# Altium integrated library TI_Logic_Flip-Flop,Latch,Register.IntLib: 2598 symbols (part 76 of 122)
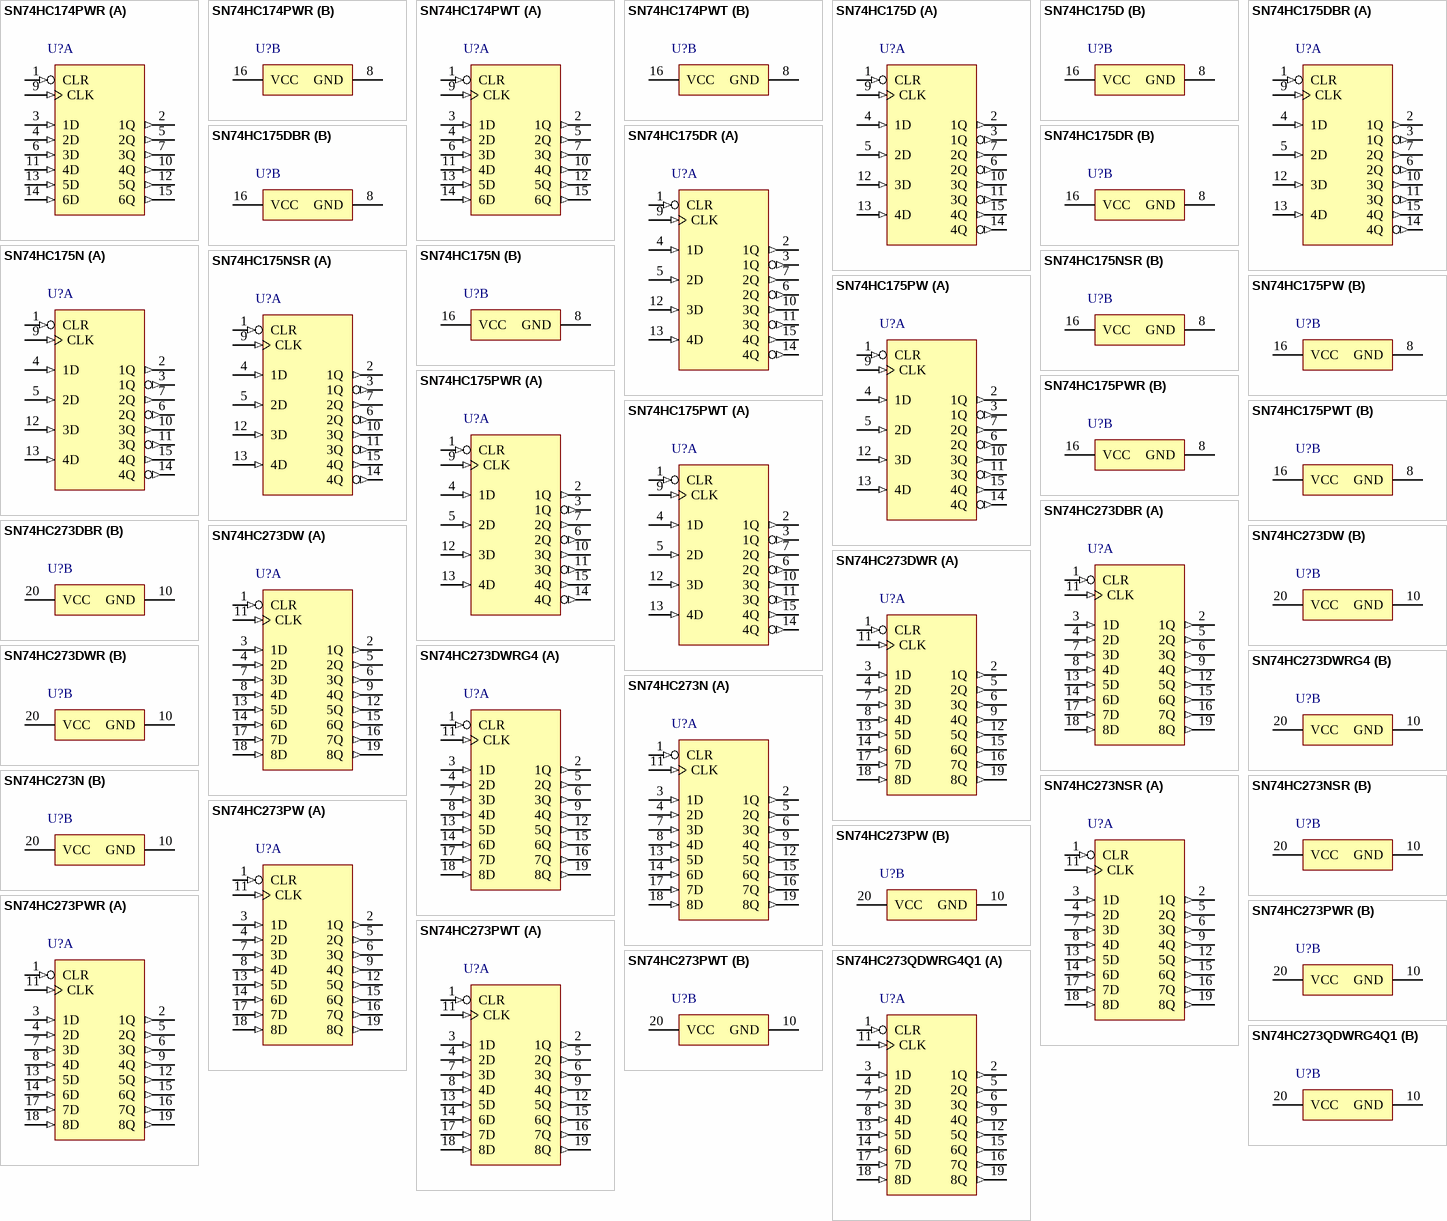
[diagram p214: symbols SN74HC174PWR to SN74HC273QDWRG4Q1]

## SN74HC175PWT
designator U?
Quadruple D-Type Flip-Flops With Clear, PW0016A, SMALL T&R; Generic Part Number: SN74HC175; Manufacturer: Texas Instruments; PartNumber: SN74HC175PWT; VCC(Min)(V): 2; VCC(Max)(V): 6; Output Type: CMOS; Output: 2S; ICC @ Nom Voltage(Max)(mA): 0.08; Bits(#): 4; F @ Nom Voltage(Max)(Mhz): 28; Rating: Catalog; Technology Family: HC; Voltage(Nom)(V): 3.3,5; Schmitt Trigger: No; Output Drive (IOL/IOH)(Max)(mA): 5.2/-5.2; Output Logic: Inverted,Non-inverted; tpd @ Nom Voltage(Max)(ns): 32; DatasheetVersion: SCLS299D; PackageReference: PW0016A; Supplier 1: Digi-Key; Supplier Part Number 1: SN74HC175PWT-ND; Supplier 2: Mouser; Supplier Part Number 2: 595-SN74HC175PWT; Input Type: CMOS; Operating Temperature Range(C): -40 to 85; 3-State Output: No; Code_JEDEC: MO-153; ComponentLink1Description: Manufacturer URL; ComponentLink1URL: http://www.ti.com/; ComponentLink2Description: Datasheet; ComponentLink2URL: http://www.ti.com/lit/ds/symlink/sn74hc175.pdf; ComponentLink3Description: Package Specification; ComponentLink3URL: http://www.ti.com/lit/ml/mpds361/mpds361.pdf
footprint PW0016A_N (SOP, 16-Leads, Body 5.1x4.5mm, Pitch 0.65mm, IPC Medium Density)
footprint PW0016A_M (SOP, 16-Leads, Body 5.1x4.5mm, Pitch 0.65mm, IPC Low Density)
footprint PW0016A_L (SOP, 16-Leads, Body 5.1x4.5mm, Pitch 0.65mm, IPC High Density)
part A pins: 1 CLR (in), 2 1Q (out), 3 1Q (out), 4 1D (in), 5 2D (in), 6 2Q (out), 7 2Q (out), 9 CLK (in), 10 3Q (out), 11 3Q (out), 12 3D (in), 13 4D (in), 14 4Q (out), 15 4Q (out)
part B pins: 8 GND (power), 16 VCC (power)

## SN74HC273DBR
designator U?
Octal D-Type Flip-Flops With Clear, DB0020A, LARGE T&R; Generic Part Number: SN74HC273; Manufacturer: Texas Instruments; PartNumber: SN74HC273DBR; VCC(Min)(V): 2; VCC(Max)(V): 6; Output Type: CMOS; Output: 2S; ICC @ Nom Voltage(Max)(mA): 0.08; Bits(#): 8; F @ Nom Voltage(Max)(Mhz): 28; Rating: Catalog; Technology Family: HC; Voltage(Nom)(V): 3.3,5; Schmitt Trigger: No; Output Drive (IOL/IOH)(Max)(mA): 5.2/-5.2; Output Logic: Non-inverted; tpd @ Nom Voltage(Max)(ns): 34; DatasheetVersion: SCLS136D; PackageReference: DB0020A; Supplier 1: Digi-Key; Supplier Part Number 1: 296-8295-2-ND; Supplier 2: Digi-Key; Supplier Part Number 2: 296-8295-1-ND; Supplier 3: Digi-Key; Supplier Part Number 3: 296-8295-6-ND; Supplier 4: Newark; Supplier Part Number 4: 76C3528; Supplier 5: Mouser; Supplier Part Number 5: 595-SN74HC273DBR; Input Type: CMOS; Operating Temperature Range(C): -40 to 85; 3-State Output: No; Code_JEDEC: MO-150; ComponentLink1Description: Manufacturer URL; ComponentLink1URL: http://www.ti.com/; ComponentLink2Description: Datasheet; ComponentLink2URL: http://www.ti.com/lit/ds/symlink/sn74hc273.pdf; ComponentLink3Description: Package Specification; ComponentLink3URL: http://www.ti.com/lit/ml/mpds508/mpds508.pdf
footprint DB0020A_N (SOP, 20-Leads, Body 5.6x7.5mm, Pitch 0.65mm, IPC Medium Density)
footprint DB0020A_M (SOP, 20-Leads, Body 5.6x7.5mm, Pitch 0.65mm, IPC Low Density)
footprint DB0020A_L (SOP, 20-Leads, Body 5.6x7.5mm, Pitch 0.65mm, IPC High Density)
part A pins: 1 CLR (in) "Clear Pin", 2 1Q (out) "1Q Output", 3 1D (in) "1D Input", 4 2D (in) "2D Input", 5 2Q (out) "2Q Output", 6 3Q (out) "3Q Output", 7 3D (in) "3D Input", 8 4D (in) "4D Input", 9 4Q (out) "4Q Output", 11 CLK (in) "Clock Pin", 12 5Q (out) "5Q Output", 13 5D (in) "5D Input", 14 6D (in) "6D Input", 15 6Q (out) "6Q Output", 16 7Q (out) "7Q Output", 17 7D (in) "7D Input", 18 8D (in) "8D Input", 19 8Q (out) "8Q Output"
part B pins: 10 GND (power) "Ground Pin", 20 VCC (power) "Power Pin"

## SN74HC273DW
designator U?
Octal D-Type Flip-Flops With Clear, DW0020A, TUBE; Generic Part Number: SN74HC273; Manufacturer: Texas Instruments; PartNumber: SN74HC273DW; VCC(Min)(V): 2; VCC(Max)(V): 6; Output Type: CMOS; Output: 2S; ICC @ Nom Voltage(Max)(mA): 0.08; Bits(#): 8; F @ Nom Voltage(Max)(Mhz): 28; Rating: Catalog; Technology Family: HC; Voltage(Nom)(V): 3.3,5; Schmitt Trigger: No; Output Drive (IOL/IOH)(Max)(mA): 5.2/-5.2; Output Logic: Non-inverted; tpd @ Nom Voltage(Max)(ns): 34; DatasheetVersion: SCLS136D; PackageReference: DW0020A; Supplier 1: Digi-Key; Supplier Part Number 1: 296-1198-5-ND; Supplier 2: Farnell; Supplier Part Number 2: 2133181; Supplier 3: Newark; Supplier Part Number 3: 36K3554; Supplier 4: Mouser; Supplier Part Number 4: 595-SN74HC273DW; Input Type: CMOS; Operating Temperature Range(C): -40 to 85; 3-State Output: No; Code_JEDEC: MS-013; ComponentLink1Description: Manufacturer URL; ComponentLink1URL: http://www.ti.com/; ComponentLink2Description: Datasheet; ComponentLink2URL: http://www.ti.com/lit/ds/symlink/sn74hc273.pdf; ComponentLink3Description: Package Specification; ComponentLink3URL: http://www.ti.com/lit/ml/mpds173a/mpds173a.pdf
footprint DW0020A_N (SOIC, 20-Leads, Body 13x7.6mm, Pitch 1.27mm, IPC Medium Density)
footprint DW0020A_M (SOIC, 20-Leads, Body 13x7.6mm, Pitch 1.27mm, IPC Low Density)
footprint DW0020A_L (SOIC, 20-Leads, Body 13x7.6mm, Pitch 1.27mm, IPC High Density)
part A pins: 1 CLR (in) "Clear Pin", 2 1Q (out) "1Q Output", 3 1D (in) "1D Input", 4 2D (in) "2D Input", 5 2Q (out) "2Q Output", 6 3Q (out) "3Q Output", 7 3D (in) "3D Input", 8 4D (in) "4D Input", 9 4Q (out) "4Q Output", 11 CLK (in) "Clock Pin", 12 5Q (out) "5Q Output", 13 5D (in) "5D Input", 14 6D (in) "6D Input", 15 6Q (out) "6Q Output", 16 7Q (out) "7Q Output", 17 7D (in) "7D Input", 18 8D (in) "8D Input", 19 8Q (out) "8Q Output"
part B pins: 10 GND (power) "Ground Pin", 20 VCC (power) "Power Pin"

## SN74HC273DWR
designator U?
Octal D-Type Flip-Flops With Clear, DW0020A, LARGE T&R; Generic Part Number: SN74HC273; Manufacturer: Texas Instruments; PartNumber: SN74HC273DWR; VCC(Min)(V): 2; VCC(Max)(V): 6; Output Type: CMOS; Output: 2S; ICC @ Nom Voltage(Max)(mA): 0.08; Bits(#): 8; F @ Nom Voltage(Max)(Mhz): 28; Rating: Catalog; Technology Family: HC; Voltage(Nom)(V): 3.3,5; Schmitt Trigger: No; Output Drive (IOL/IOH)(Max)(mA): 5.2/-5.2; Output Logic: Non-inverted; tpd @ Nom Voltage(Max)(ns): 34; DatasheetVersion: SCLS136D; PackageReference: DW0020A; Supplier 1: Digi-Key; Supplier Part Number 1: 296-1198-2-ND; Supplier 2: Digi-Key; Supplier Part Number 2: 296-1198-1-ND; Supplier 3: Digi-Key; Supplier Part Number 3: 296-1198-6-ND; Supplier 4: Farnell; Supplier Part Number 4: 9591389; Supplier 5: Farnell; Supplier Part Number 5: 2412321; Supplier 6: Farnell; Supplier Part Number 6: 1231889; Supplier 7: Newark; Supplier Part Number 7: 67K2847; Supplier 8: Newark; Supplier Part Number 8: 28X3813; Supplier 9: Mouser; Supplier Part Number 9: 595-SN74HC273DWR; Input Type: CMOS; Operating Temperature Range(C): -40 to 85; 3-State Output: No; Code_JEDEC: MS-013; ComponentLink1Description: Manufacturer URL; ComponentLink1URL: http://www.ti.com/; ComponentLink2Description: Datasheet; ComponentLink2URL: http://www.ti.com/lit/ds/symlink/sn74hc273.pdf; ComponentLink3Description: Package Specification; ComponentLink3URL: http://www.ti.com/lit/ml/mpds173a/mpds173a.pdf
footprint DW0020A_N (SOIC, 20-Leads, Body 13x7.6mm, Pitch 1.27mm, IPC Medium Density)
footprint DW0020A_M (SOIC, 20-Leads, Body 13x7.6mm, Pitch 1.27mm, IPC Low Density)
footprint DW0020A_L (SOIC, 20-Leads, Body 13x7.6mm, Pitch 1.27mm, IPC High Density)
part A pins: 1 CLR (in) "Clear Pin", 2 1Q (out) "1Q Output", 3 1D (in) "1D Input", 4 2D (in) "2D Input", 5 2Q (out) "2Q Output", 6 3Q (out) "3Q Output", 7 3D (in) "3D Input", 8 4D (in) "4D Input", 9 4Q (out) "4Q Output", 11 CLK (in) "Clock Pin", 12 5Q (out) "5Q Output", 13 5D (in) "5D Input", 14 6D (in) "6D Input", 15 6Q (out) "6Q Output", 16 7Q (out) "7Q Output", 17 7D (in) "7D Input", 18 8D (in) "8D Input", 19 8Q (out) "8Q Output"
part B pins: 10 GND (power) "Ground Pin", 20 VCC (power) "Power Pin"

## SN74HC273DWRG4
designator U?
Octal D-Type Flip-Flops With Clear, DW0020A, LARGE T&R; Generic Part Number: SN74HC273; Manufacturer: Texas Instruments; PartNumber: SN74HC273DWRG4; VCC(Min)(V): 2; VCC(Max)(V): 6; Output Type: CMOS; Output: 2S; ICC @ Nom Voltage(Max)(mA): 0.08; Bits(#): 8; F @ Nom Voltage(Max)(Mhz): 28; Rating: Catalog; Technology Family: HC; Voltage(Nom)(V): 3.3,5; Schmitt Trigger: No; Output Drive (IOL/IOH)(Max)(mA): 5.2/-5.2; Output Logic: Non-inverted; tpd @ Nom Voltage(Max)(ns): 34; DatasheetVersion: SCLS136D; PackageReference: DW0020A; Supplier 1: Digi-Key; Supplier Part Number 1: SN74HC273DWRG4-ND; Supplier 2: Newark; Supplier Part Number 2: 66K4248; Supplier 3: Mouser; Supplier Part Number 3: 595-SN74HC273DWRG4; Input Type: CMOS; Operating Temperature Range(C): -40 to 85; 3-State Output: No; Code_JEDEC: MS-013; ComponentLink1Description: Manufacturer URL; ComponentLink1URL: http://www.ti.com/; ComponentLink2Description: Datasheet; ComponentLink2URL: http://www.ti.com/lit/ds/symlink/sn74hc273.pdf; ComponentLink3Description: Package Specification; ComponentLink3URL: http://www.ti.com/lit/ml/mpds173a/mpds173a.pdf
footprint DW0020A_N (SOIC, 20-Leads, Body 13x7.6mm, Pitch 1.27mm, IPC Medium Density)
footprint DW0020A_M (SOIC, 20-Leads, Body 13x7.6mm, Pitch 1.27mm, IPC Low Density)
footprint DW0020A_L (SOIC, 20-Leads, Body 13x7.6mm, Pitch 1.27mm, IPC High Density)
part A pins: 1 CLR (in) "Clear Pin", 2 1Q (out) "1Q Output", 3 1D (in) "1D Input", 4 2D (in) "2D Input", 5 2Q (out) "2Q Output", 6 3Q (out) "3Q Output", 7 3D (in) "3D Input", 8 4D (in) "4D Input", 9 4Q (out) "4Q Output", 11 CLK (in) "Clock Pin", 12 5Q (out) "5Q Output", 13 5D (in) "5D Input", 14 6D (in) "6D Input", 15 6Q (out) "6Q Output", 16 7Q (out) "7Q Output", 17 7D (in) "7D Input", 18 8D (in) "8D Input", 19 8Q (out) "8Q Output"
part B pins: 10 GND (power) "Ground Pin", 20 VCC (power) "Power Pin"

## SN74HC273N
designator U?
Octal D-Type Flip-Flops With Clear, N0020A, TUBE; Generic Part Number: SN74HC273; Manufacturer: Texas Instruments; PartNumber: SN74HC273N; VCC(Min)(V): 2; VCC(Max)(V): 6; Output Type: CMOS; Output: 2S; ICC @ Nom Voltage(Max)(mA): 0.08; Bits(#): 8; F @ Nom Voltage(Max)(Mhz): 28; Rating: Catalog; Technology Family: HC; Voltage(Nom)(V): 3.3,5; Schmitt Trigger: No; Output Drive (IOL/IOH)(Max)(mA): 5.2/-5.2; Output Logic: Non-inverted; tpd @ Nom Voltage(Max)(ns): 34; DatasheetVersion: SCLS136D; PackageReference: N0020A; Supplier 1: Digi-Key; Supplier Part Number 1: 296-1587-5-ND; Supplier 2: Farnell; Supplier Part Number 2: 9591397; Supplier 3: Newark; Supplier Part Number 3: 08F6498; Supplier 4: Mouser; Supplier Part Number 4: 595-SN74HC273N; Input Type: CMOS; Operating Temperature Range(C): -40 to 85; 3-State Output: No; Code_JEDEC: MS-001; ComponentLink1Description: Manufacturer URL; ComponentLink1URL: http://www.ti.com/; ComponentLink2Description: Datasheet; ComponentLink2URL: http://www.ti.com/lit/ds/symlink/sn74hc273.pdf; ComponentLink3Description: Package Specification; ComponentLink3URL: http://www.ti.com/lit/ml/mpdi002c/mpdi002c.pdf
footprint N0020A (DIP, 20-Leads, Body 26.9x6.6mm, Pitch 2.54mm)
part A pins: 1 CLR (in) "Clear Pin", 2 1Q (out) "1Q Output", 3 1D (in) "1D Input", 4 2D (in) "2D Input", 5 2Q (out) "2Q Output", 6 3Q (out) "3Q Output", 7 3D (in) "3D Input", 8 4D (in) "4D Input", 9 4Q (out) "4Q Output", 11 CLK (in) "Clock Pin", 12 5Q (out) "5Q Output", 13 5D (in) "5D Input", 14 6D (in) "6D Input", 15 6Q (out) "6Q Output", 16 7Q (out) "7Q Output", 17 7D (in) "7D Input", 18 8D (in) "8D Input", 19 8Q (out) "8Q Output"
part B pins: 10 GND (power) "Ground Pin", 20 VCC (power) "Power Pin"

## SN74HC273NSR
designator U?
Octal D-Type Flip-Flops With Clear, NS0020A, LARGE T&R; Generic Part Number: SN74HC273; Manufacturer: Texas Instruments; PartNumber: SN74HC273NSR; VCC(Min)(V): 2; VCC(Max)(V): 6; Output Type: CMOS; Output: 2S; ICC @ Nom Voltage(Max)(mA): 0.08; Bits(#): 8; F @ Nom Voltage(Max)(Mhz): 28; Rating: Catalog; Technology Family: HC; Voltage(Nom)(V): 3.3,5; Schmitt Trigger: No; Output Drive (IOL/IOH)(Max)(mA): 5.2/-5.2; Output Logic: Non-inverted; tpd @ Nom Voltage(Max)(ns): 34; DatasheetVersion: SCLS136D; PackageReference: NS0020A; Supplier 1: Digi-Key; Supplier Part Number 1: 296-8296-2-ND; Supplier 2: Digi-Key; Supplier Part Number 2: 296-8296-1-ND; Supplier 3: Digi-Key; Supplier Part Number 3: 296-8296-6-ND; Supplier 4: Farnell; Supplier Part Number 4: 2463824; Supplier 5: Farnell; Supplier Part Number 5: 2436991; Supplier 6: Farnell; Supplier Part Number 6: 2463824RL; Supplier 7: Newark; Supplier Part Number 7: 76C3529; Supplier 8: Newark; Supplier Part Number 8: 72Y2007; Supplier 9: Mouser; Supplier Part Number 9: 595-SN74HC273NSR; Input Type: CMOS; Operating Temperature Range(C): -40 to 85; 3-State Output: No; ComponentLink1Description: Manufacturer URL; ComponentLink1URL: http://www.ti.com/; ComponentLink2Description: Datasheet; ComponentLink2URL: http://www.ti.com/lit/ds/symlink/sn74hc273.pdf; ComponentLink3Description: Package Specification; ComponentLink3URL: http://www.ti.com/lit/ml/msop002a/msop002a.pdf
footprint NS0020A_N (SOIC,20-Leads,Body 12.9x5.6mm,Pitch 1.27mm,IPC Medium Density)
footprint NS0020A_M (SOIC,20-Leads,Body 12.9x5.6mm,Pitch 1.27mm,IPC Low Density)
footprint NS0020A_L (SOIC,20-Leads,Body 12.9x5.6mm,Pitch 1.27mm,IPC High Density)
part A pins: 1 CLR (in) "Clear Pin", 2 1Q (out) "1Q Output", 3 1D (in) "1D Input", 4 2D (in) "2D Input", 5 2Q (out) "2Q Output", 6 3Q (out) "3Q Output", 7 3D (in) "3D Input", 8 4D (in) "4D Input", 9 4Q (out) "4Q Output", 11 CLK (in) "Clock Pin", 12 5Q (out) "5Q Output", 13 5D (in) "5D Input", 14 6D (in) "6D Input", 15 6Q (out) "6Q Output", 16 7Q (out) "7Q Output", 17 7D (in) "7D Input", 18 8D (in) "8D Input", 19 8Q (out) "8Q Output"
part B pins: 10 GND (power) "Ground Pin", 20 VCC (power) "Power Pin"

## SN74HC273PW
designator U?
Octal D-Type Flip-Flops With Clear, PW0020A, TUBE; Generic Part Number: SN74HC273; Manufacturer: Texas Instruments; PartNumber: SN74HC273PW; VCC(Min)(V): 2; VCC(Max)(V): 6; Output Type: CMOS; Output: 2S; ICC @ Nom Voltage(Max)(mA): 0.08; Bits(#): 8; F @ Nom Voltage(Max)(Mhz): 28; Rating: Catalog; Technology Family: HC; Voltage(Nom)(V): 3.3,5; Schmitt Trigger: No; Output Drive (IOL/IOH)(Max)(mA): 5.2/-5.2; Output Logic: Non-inverted; tpd @ Nom Voltage(Max)(ns): 34; DatasheetVersion: SCLS136D; PackageReference: PW0020A; Supplier 1: Digi-Key; Supplier Part Number 1: 296-26476-5-ND; Supplier 2: Farnell; Supplier Part Number 2: 9591400; Supplier 3: Newark; Supplier Part Number 3: 98K0393; Supplier 4: Mouser; Supplier Part Number 4: 595-SN74HC273PW; Input Type: CMOS; Operating Temperature Range(C): -40 to 85; 3-State Output: No; Code_JEDEC: MO-153; ComponentLink1Description: Manufacturer URL; ComponentLink1URL: http://www.ti.com/; ComponentLink2Description: Datasheet; ComponentLink2URL: http://www.ti.com/lit/ds/symlink/sn74hc273.pdf; ComponentLink3Description: Package Specification; ComponentLink3URL: http://www.ti.com/lit/ml/mpds362/mpds362.pdf
footprint PW0020A_N (SOP, 20-Leads, Body 6.6x4.5mm, Pitch 0.65mm, IPC Medium Density)
footprint PW0020A_M (SOP, 20-Leads, Body 6.6x4.5mm, Pitch 0.65mm, IPC Low Density)
footprint PW0020A_L (SOP, 20-Leads, Body 6.6x4.5mm, Pitch 0.65mm, IPC High Density)
part A pins: 1 CLR (in) "Clear Pin", 2 1Q (out) "1Q Output", 3 1D (in) "1D Input", 4 2D (in) "2D Input", 5 2Q (out) "2Q Output", 6 3Q (out) "3Q Output", 7 3D (in) "3D Input", 8 4D (in) "4D Input", 9 4Q (out) "4Q Output", 11 CLK (in) "Clock Pin", 12 5Q (out) "5Q Output", 13 5D (in) "5D Input", 14 6D (in) "6D Input", 15 6Q (out) "6Q Output", 16 7Q (out) "7Q Output", 17 7D (in) "7D Input", 18 8D (in) "8D Input", 19 8Q (out) "8Q Output"
part B pins: 10 GND (power) "Ground Pin", 20 VCC (power) "Power Pin"

## SN74HC273PWR
designator U?
Octal D-Type Flip-Flops With Clear, PW0020A, LARGE T&R; Generic Part Number: SN74HC273; Manufacturer: Texas Instruments; PartNumber: SN74HC273PWR; VCC(Min)(V): 2; VCC(Max)(V): 6; Output Type: CMOS; Output: 2S; ICC @ Nom Voltage(Max)(mA): 0.08; Bits(#): 8; F @ Nom Voltage(Max)(Mhz): 28; Rating: Catalog; Technology Family: HC; Voltage(Nom)(V): 3.3,5; Schmitt Trigger: No; Output Drive (IOL/IOH)(Max)(mA): 5.2/-5.2; Output Logic: Non-inverted; tpd @ Nom Voltage(Max)(ns): 34; DatasheetVersion: SCLS136D; PackageReference: PW0020A; Supplier 1: Digi-Key; Supplier Part Number 1: 296-8297-2-ND; Supplier 2: Digi-Key; Supplier Part Number 2: 296-8297-1-ND; Supplier 3: Digi-Key; Supplier Part Number 3: 296-8297-6-ND; Supplier 4: Farnell; Supplier Part Number 4: 2436992; Supplier 5: Newark; Supplier Part Number 5: 76C3530; Supplier 6: Mouser; Supplier Part Number 6: 595-SN74HC273PWR; Input Type: CMOS; Operating Temperature Range(C): -40 to 85; 3-State Output: No; Code_JEDEC: MO-153; ComponentLink1Description: Manufacturer URL; ComponentLink1URL: http://www.ti.com/; ComponentLink2Description: Datasheet; ComponentLink2URL: http://www.ti.com/lit/ds/symlink/sn74hc273.pdf; ComponentLink3Description: Package Specification; ComponentLink3URL: http://www.ti.com/lit/ml/mpds362/mpds362.pdf
footprint PW0020A_N (SOP, 20-Leads, Body 6.6x4.5mm, Pitch 0.65mm, IPC Medium Density)
footprint PW0020A_M (SOP, 20-Leads, Body 6.6x4.5mm, Pitch 0.65mm, IPC Low Density)
footprint PW0020A_L (SOP, 20-Leads, Body 6.6x4.5mm, Pitch 0.65mm, IPC High Density)
part A pins: 1 CLR (in) "Clear Pin", 2 1Q (out) "1Q Output", 3 1D (in) "1D Input", 4 2D (in) "2D Input", 5 2Q (out) "2Q Output", 6 3Q (out) "3Q Output", 7 3D (in) "3D Input", 8 4D (in) "4D Input", 9 4Q (out) "4Q Output", 11 CLK (in) "Clock Pin", 12 5Q (out) "5Q Output", 13 5D (in) "5D Input", 14 6D (in) "6D Input", 15 6Q (out) "6Q Output", 16 7Q (out) "7Q Output", 17 7D (in) "7D Input", 18 8D (in) "8D Input", 19 8Q (out) "8Q Output"
part B pins: 10 GND (power) "Ground Pin", 20 VCC (power) "Power Pin"

## SN74HC273PWT
designator U?
Octal D-Type Flip-Flops With Clear, PW0020A, SMALL T&R; Generic Part Number: SN74HC273; Manufacturer: Texas Instruments; PartNumber: SN74HC273PWT; VCC(Min)(V): 2; VCC(Max)(V): 6; Output Type: CMOS; Output: 2S; ICC @ Nom Voltage(Max)(mA): 0.08; Bits(#): 8; F @ Nom Voltage(Max)(Mhz): 28; Rating: Catalog; Technology Family: HC; Voltage(Nom)(V): 3.3,5; Schmitt Trigger: No; Output Drive (IOL/IOH)(Max)(mA): 5.2/-5.2; Output Logic: Non-inverted; tpd @ Nom Voltage(Max)(ns): 34; DatasheetVersion: SCLS136D; PackageReference: PW0020A; Supplier 1: Digi-Key; Supplier Part Number 1: SN74HC273PWT-ND; Supplier 2: Farnell; Supplier Part Number 2: 2406872; Supplier 3: Newark; Supplier Part Number 3: 45Y7758; Supplier 4: Mouser; Supplier Part Number 4: 595-SN74HC273PWT; Input Type: CMOS; Operating Temperature Range(C): -40 to 85; 3-State Output: No; Code_JEDEC: MO-153; ComponentLink1Description: Manufacturer URL; ComponentLink1URL: http://www.ti.com/; ComponentLink2Description: Datasheet; ComponentLink2URL: http://www.ti.com/lit/ds/symlink/sn74hc273.pdf; ComponentLink3Description: Package Specification; ComponentLink3URL: http://www.ti.com/lit/ml/mpds362/mpds362.pdf
footprint PW0020A_N (SOP, 20-Leads, Body 6.6x4.5mm, Pitch 0.65mm, IPC Medium Density)
footprint PW0020A_M (SOP, 20-Leads, Body 6.6x4.5mm, Pitch 0.65mm, IPC Low Density)
footprint PW0020A_L (SOP, 20-Leads, Body 6.6x4.5mm, Pitch 0.65mm, IPC High Density)
part A pins: 1 CLR (in) "Clear Pin", 2 1Q (out) "1Q Output", 3 1D (in) "1D Input", 4 2D (in) "2D Input", 5 2Q (out) "2Q Output", 6 3Q (out) "3Q Output", 7 3D (in) "3D Input", 8 4D (in) "4D Input", 9 4Q (out) "4Q Output", 11 CLK (in) "Clock Pin", 12 5Q (out) "5Q Output", 13 5D (in) "5D Input", 14 6D (in) "6D Input", 15 6Q (out) "6Q Output", 16 7Q (out) "7Q Output", 17 7D (in) "7D Input", 18 8D (in) "8D Input", 19 8Q (out) "8Q Output"
part B pins: 10 GND (power) "Ground Pin", 20 VCC (power) "Power Pin"

## SN74HC273QDWRG4Q1
designator U?
Automotive Catalog Octal D-Type Flip-Flops With Clear, DW0020A, LARGE T&R; Generic Part Number: SN74HC273-Q1; Manufacturer: Texas Instruments; PartNumber: SN74HC273QDWRG4Q1; VCC(Min)(V): 2; VCC(Max)(V): 6; Output Type: CMOS; Output: 2S; ICC @ Nom Voltage(Max)(mA): 0.08; Bits(#): 8; F @ Nom Voltage(Max)(Mhz): 28; Technology Family: HC; Voltage(Nom)(V): 3.3,5; Schmitt Trigger: No; Output Drive (IOL/IOH)(Max)(mA): 5.2/-5.2; Output Logic: Non-inverted; tpd @ Nom Voltage(Max)(ns): 34; DatasheetVersion: SCLS578A; PackageReference: DW0020A; Supplier 1: Digi-Key; Supplier Part Number 1: 296-28966-2-ND; Supplier 2: Digi-Key; Supplier Part Number 2: 296-28966-1-ND; Supplier 3: Digi-Key; Supplier Part Number 3: 296-28966-6-ND; Supplier 4: Mouser; Supplier Part Number 4: 595-N74HC273QDWRG4Q1; Input Type: CMOS; Operating Temperature Range(C): -40 to 125; Rating: Automotive; 3-State Output: No; Code_JEDEC: MS-013; ComponentLink1Description: Manufacturer URL; ComponentLink1URL: http://www.ti.com/; ComponentLink2Description: Datasheet; ComponentLink2URL: http://www.ti.com/lit/ds/symlink/sn74hc273-q1.pdf; ComponentLink3Description: Package Specification; ComponentLink3URL: http://www.ti.com/lit/ml/mpds173a/mpds173a.pdf
footprint DW0020A_N (SOIC, 20-Leads, Body 13x7.6mm, Pitch 1.27mm, IPC Medium Density)
footprint DW0020A_M (SOIC, 20-Leads, Body 13x7.6mm, Pitch 1.27mm, IPC Low Density)
footprint DW0020A_L (SOIC, 20-Leads, Body 13x7.6mm, Pitch 1.27mm, IPC High Density)
part A pins: 1 CLR (in) "Clear Pin", 2 1Q (out) "1Q Output", 3 1D (in) "1D Input", 4 2D (in) "2D Input", 5 2Q (out) "2Q Output", 6 3Q (out) "3Q Output", 7 3D (in) "3D Input", 8 4D (in) "4D Input", 9 4Q (out) "4Q Output", 11 CLK (in) "Clock Pin", 12 5Q (out) "5Q Output", 13 5D (in) "5D Input", 14 6D (in) "6D Input", 15 6Q (out) "6Q Output", 16 7Q (out) "7Q Output", 17 7D (in) "7D Input", 18 8D (in) "8D Input", 19 8Q (out) "8Q Output"
part B pins: 10 GND (power) "Ground Pin", 20 VCC (power) "Power Pin"

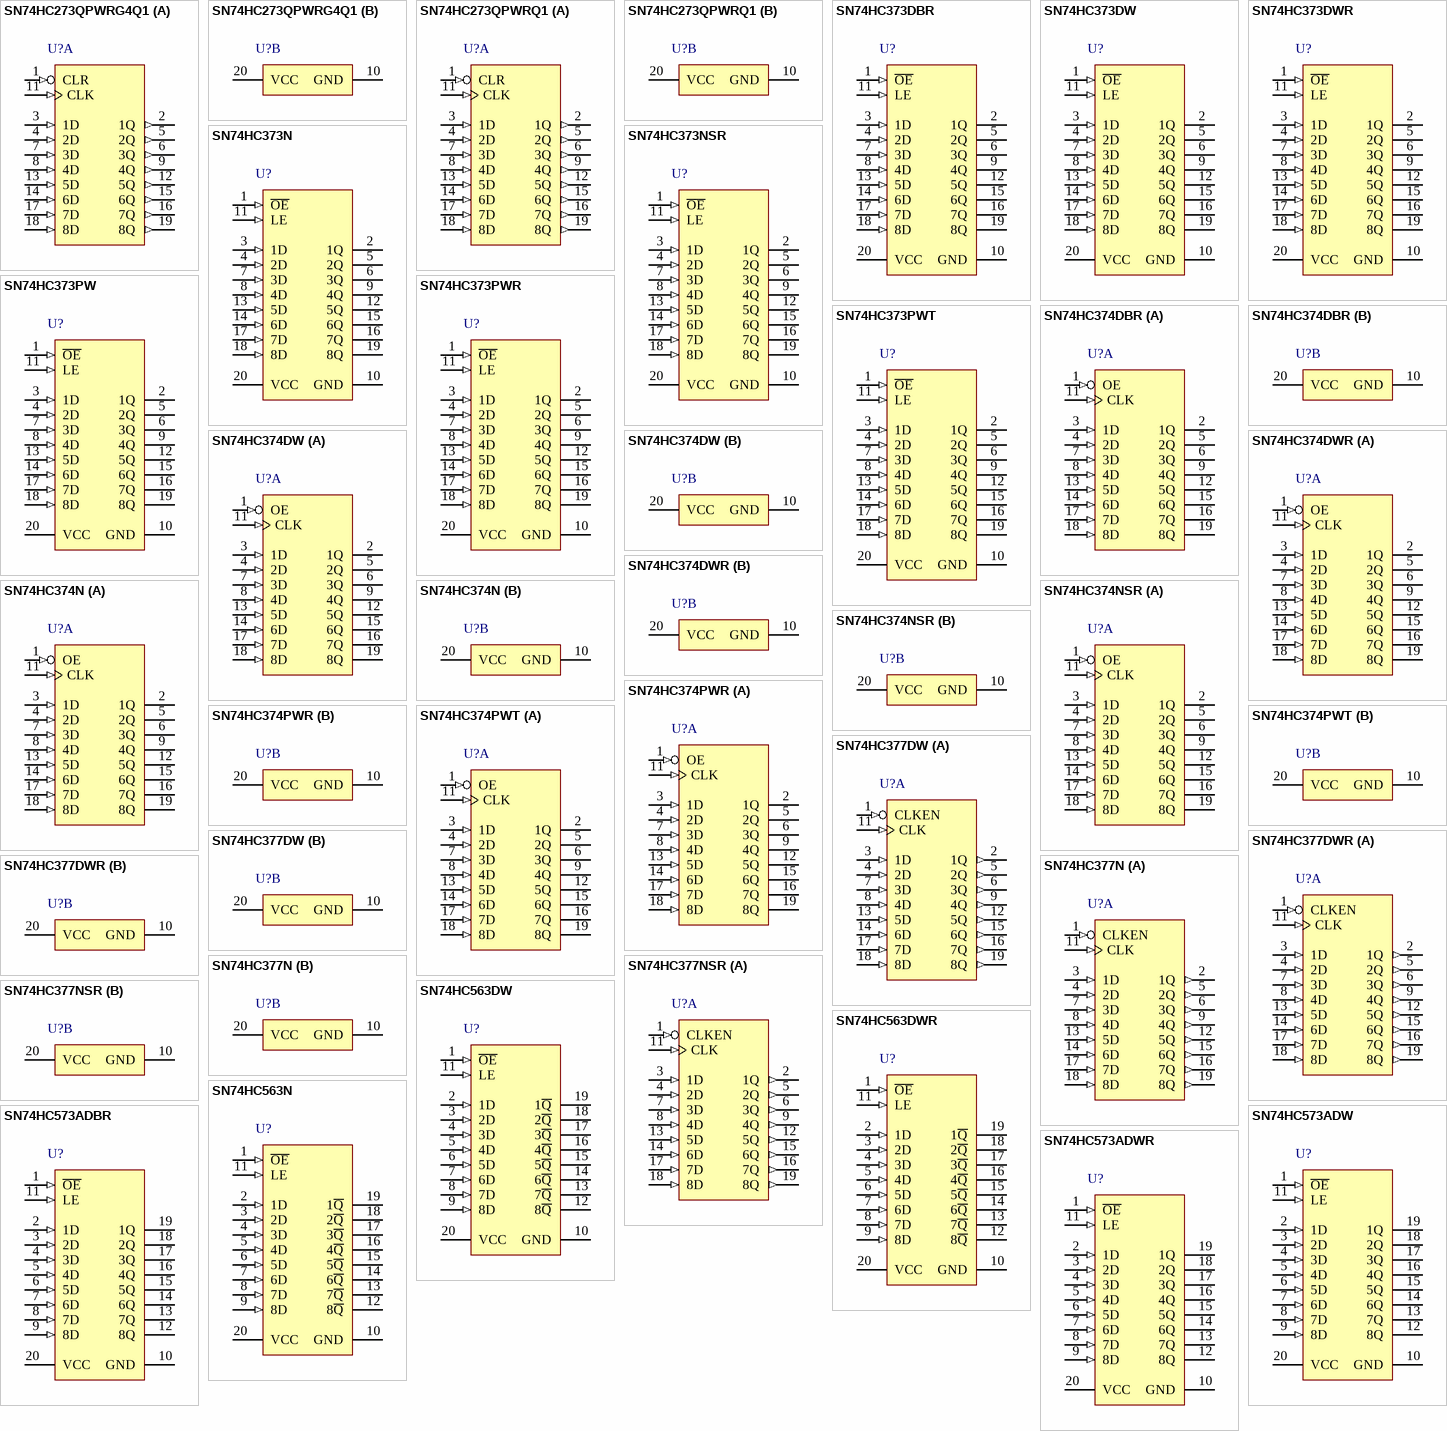
[diagram p90: symbols SN74HC273QPWRG4Q1 to SN74HC573ADWR]

## SN74HC273QPWRG4Q1
designator U?
Automotive Catalog Octal D-Type Flip-Flops With Clear, PW0020A, LARGE T&R; Generic Part Number: SN74HC273-Q1; Manufacturer: Texas Instruments; PartNumber: SN74HC273QPWRG4Q1; VCC(Min)(V): 2; VCC(Max)(V): 6; Output Type: CMOS; Output: 2S; ICC @ Nom Voltage(Max)(mA): 0.08; Bits(#): 8; F @ Nom Voltage(Max)(Mhz): 28; Technology Family: HC; Voltage(Nom)(V): 3.3,5; Schmitt Trigger: No; Output Drive (IOL/IOH)(Max)(mA): 5.2/-5.2; Output Logic: Non-inverted; tpd @ Nom Voltage(Max)(ns): 34; DatasheetVersion: SCLS578A; PackageReference: PW0020A; Supplier 1: Digi-Key; Supplier Part Number 1: SN74HC273QPWRG4Q1-ND; Supplier 2: Mouser; Supplier Part Number 2: 595-N74HC273QPWRG4Q1; Input Type: CMOS; Operating Temperature Range(C): -40 to 125; Rating: Automotive; 3-State Output: No; Code_JEDEC: MO-153; ComponentLink1Description: Manufacturer URL; ComponentLink1URL: http://www.ti.com/; ComponentLink2Description: Datasheet; ComponentLink2URL: http://www.ti.com/lit/ds/symlink/sn74hc273-q1.pdf; ComponentLink3Description: Package Specification; ComponentLink3URL: http://www.ti.com/lit/ml/mpds362/mpds362.pdf
footprint PW0020A_N (SOP, 20-Leads, Body 6.6x4.5mm, Pitch 0.65mm, IPC Medium Density)
footprint PW0020A_M (SOP, 20-Leads, Body 6.6x4.5mm, Pitch 0.65mm, IPC Low Density)
footprint PW0020A_L (SOP, 20-Leads, Body 6.6x4.5mm, Pitch 0.65mm, IPC High Density)
part A pins: 1 CLR (in) "Clear Pin", 2 1Q (out) "1Q Output", 3 1D (in) "1D Input", 4 2D (in) "2D Input", 5 2Q (out) "2Q Output", 6 3Q (out) "3Q Output", 7 3D (in) "3D Input", 8 4D (in) "4D Input", 9 4Q (out) "4Q Output", 11 CLK (in) "Clock Pin", 12 5Q (out) "5Q Output", 13 5D (in) "5D Input", 14 6D (in) "6D Input", 15 6Q (out) "6Q Output", 16 7Q (out) "7Q Output", 17 7D (in) "7D Input", 18 8D (in) "8D Input", 19 8Q (out) "8Q Output"
part B pins: 10 GND (power) "Ground Pin", 20 VCC (power) "Power Pin"

## SN74HC273QPWRQ1
designator U?
Automotive Catalog Octal D-Type Flip-Flops With Clear, PW0020A, LARGE T&R; Generic Part Number: SN74HC273-Q1; Manufacturer: Texas Instruments; PartNumber: SN74HC273QPWRQ1; VCC(Min)(V): 2; VCC(Max)(V): 6; Output Type: CMOS; Output: 2S; ICC @ Nom Voltage(Max)(mA): 0.08; Bits(#): 8; F @ Nom Voltage(Max)(Mhz): 28; Technology Family: HC; Voltage(Nom)(V): 3.3,5; Schmitt Trigger: No; Output Drive (IOL/IOH)(Max)(mA): 5.2/-5.2; Output Logic: Non-inverted; tpd @ Nom Voltage(Max)(ns): 34; DatasheetVersion: SCLS578A; PackageReference: PW0020A; Supplier 1: Digi-Key; Supplier Part Number 1: 296-38796-2-ND; Supplier 2: Digi-Key; Supplier Part Number 2: 296-38796-1-ND; Supplier 3: Digi-Key; Supplier Part Number 3: 296-38796-6-ND; Supplier 4: Mouser; Supplier Part Number 4: 595-SN74HC273QPWRQ1; Input Type: CMOS; Operating Temperature Range(C): -40 to 125; Rating: Automotive; 3-State Output: No; Code_JEDEC: MO-153; ComponentLink1Description: Manufacturer URL; ComponentLink1URL: http://www.ti.com/; ComponentLink2Description: Datasheet; ComponentLink2URL: http://www.ti.com/lit/ds/symlink/sn74hc273-q1.pdf; ComponentLink3Description: Package Specification; ComponentLink3URL: http://www.ti.com/lit/ml/mpds362/mpds362.pdf
footprint PW0020A_N (SOP, 20-Leads, Body 6.6x4.5mm, Pitch 0.65mm, IPC Medium Density)
footprint PW0020A_M (SOP, 20-Leads, Body 6.6x4.5mm, Pitch 0.65mm, IPC Low Density)
footprint PW0020A_L (SOP, 20-Leads, Body 6.6x4.5mm, Pitch 0.65mm, IPC High Density)
part A pins: 1 CLR (in) "Clear Pin", 2 1Q (out) "1Q Output", 3 1D (in) "1D Input", 4 2D (in) "2D Input", 5 2Q (out) "2Q Output", 6 3Q (out) "3Q Output", 7 3D (in) "3D Input", 8 4D (in) "4D Input", 9 4Q (out) "4Q Output", 11 CLK (in) "Clock Pin", 12 5Q (out) "5Q Output", 13 5D (in) "5D Input", 14 6D (in) "6D Input", 15 6Q (out) "6Q Output", 16 7Q (out) "7Q Output", 17 7D (in) "7D Input", 18 8D (in) "8D Input", 19 8Q (out) "8Q Output"
part B pins: 10 GND (power) "Ground Pin", 20 VCC (power) "Power Pin"

## SN74HC373DBR
designator U?
Octal Transparent D-Type Latches With 3-State Outputs, DB0020A, LARGE T&R; Generic Part Number: SN74HC373; Manufacturer: Texas Instruments; PartNumber: SN74HC373DBR; VCC(Min)(V): 2; VCC(Max)(V): 6; Output Type: CMOS; Logic: True; Static Current: 0.08; Bits(#): 8; F @ Nom Voltage(Max)(Mhz): 28; Rating: Catalog; Technology Family: HC; Schmitt Trigger: No; Output Drive (IOL/IOH)(Max)(mA): 7.8/-7.8; Output Logic: Non-inverted; 3-State Output: Yes; tpd @ Nom Voltage(Max)(ns): 32; DatasheetVersion: SCLS140D; PackageReference: DB0020A; Supplier 1: Digi-Key; Supplier Part Number 1: 296-8309-2-ND; Supplier 2: Digi-Key; Supplier Part Number 2: 296-8309-1-ND; Supplier 3: Digi-Key; Supplier Part Number 3: 296-8309-6-ND; Supplier 4: Mouser; Supplier Part Number 4: 595-SN74HC373DBR; ICC @ Nom Voltage(Max)(mA): 0.08; Input Type: CMOS; Operating Temperature Range(C): -40 to 85; Voltage(Nom)(V): 6; Code_JEDEC: MO-150; ComponentLink1Description: Manufacturer URL; ComponentLink1URL: http://www.ti.com/; ComponentLink2Description: Datasheet; ComponentLink2URL: http://www.ti.com/lit/ds/symlink/sn74hc373.pdf; ComponentLink3Description: Package Specification; ComponentLink3URL: http://www.ti.com/lit/ml/mpds508/mpds508.pdf
footprint DB0020A_N (SOP, 20-Leads, Body 5.6x7.5mm, Pitch 0.65mm, IPC Medium Density)
footprint DB0020A_M (SOP, 20-Leads, Body 5.6x7.5mm, Pitch 0.65mm, IPC Low Density)
footprint DB0020A_L (SOP, 20-Leads, Body 5.6x7.5mm, Pitch 0.65mm, IPC High Density)
pins: 1 ~{OE} (in) "Output Enable", 2 1Q (hiz) "1Q Output", 3 1D (in) "1D Input", 4 2D (in) "2D Input", 5 2Q (hiz) "2Q Output", 6 3Q (hiz) "3Q Output", 7 3D (in) "3D Input", 8 4D (in) "4D Input", 9 4Q (hiz) "4Q Output", 10 GND (power) "Ground Pin", 11 LE (in) "Latch Enable", 12 5Q (hiz) "5Q Output", 13 5D (in) "5D Input", 14 6D (in) "6D Input", 15 6Q (hiz) "6Q Output", 16 7Q (hiz) "7Q Output", 17 7D (in) "7D Input", 18 8D (in) "8D Input", 19 8Q (hiz) "8Q Output", 20 VCC (power) "Power Pin"

## SN74HC373DW
designator U?
Octal Transparent D-Type Latches With 3-State Outputs, DW0020A, TUBE; Generic Part Number: SN74HC373; Manufacturer: Texas Instruments; PartNumber: SN74HC373DW; VCC(Min)(V): 2; VCC(Max)(V): 6; Output Type: CMOS; Logic: True; Static Current: 0.08; Bits(#): 8; F @ Nom Voltage(Max)(Mhz): 28; Rating: Catalog; Technology Family: HC; Schmitt Trigger: No; Output Drive (IOL/IOH)(Max)(mA): 7.8/-7.8; Output Logic: Non-inverted; 3-State Output: Yes; tpd @ Nom Voltage(Max)(ns): 32; DatasheetVersion: SCLS140D; PackageReference: DW0020A; Supplier 1: Digi-Key; Supplier Part Number 1: 296-1200-5-ND; Supplier 2: Farnell; Supplier Part Number 2: 9591451; Supplier 3: Newark; Supplier Part Number 3: 08F6509; Supplier 4: Mouser; Supplier Part Number 4: 595-SN74HC373DW; ICC @ Nom Voltage(Max)(mA): 0.08; Input Type: CMOS; Operating Temperature Range(C): -40 to 85; Voltage(Nom)(V): 6; Code_JEDEC: MS-013; ComponentLink1Description: Manufacturer URL; ComponentLink1URL: http://www.ti.com/; ComponentLink2Description: Datasheet; ComponentLink2URL: http://www.ti.com/lit/ds/symlink/sn74hc373.pdf; ComponentLink3Description: Package Specification; ComponentLink3URL: http://www.ti.com/lit/ml/mpds173a/mpds173a.pdf
footprint DW0020A_N (SOIC, 20-Leads, Body 13x7.6mm, Pitch 1.27mm, IPC Medium Density)
footprint DW0020A_M (SOIC, 20-Leads, Body 13x7.6mm, Pitch 1.27mm, IPC Low Density)
footprint DW0020A_L (SOIC, 20-Leads, Body 13x7.6mm, Pitch 1.27mm, IPC High Density)
pins: 1 ~{OE} (in) "Output Enable", 2 1Q (hiz) "1Q Output", 3 1D (in) "1D Input", 4 2D (in) "2D Input", 5 2Q (hiz) "2Q Output", 6 3Q (hiz) "3Q Output", 7 3D (in) "3D Input", 8 4D (in) "4D Input", 9 4Q (hiz) "4Q Output", 10 GND (power) "Ground Pin", 11 LE (in) "Latch Enable", 12 5Q (hiz) "5Q Output", 13 5D (in) "5D Input", 14 6D (in) "6D Input", 15 6Q (hiz) "6Q Output", 16 7Q (hiz) "7Q Output", 17 7D (in) "7D Input", 18 8D (in) "8D Input", 19 8Q (hiz) "8Q Output", 20 VCC (power) "Power Pin"

## SN74HC373DWR
designator U?
Octal Transparent D-Type Latches With 3-State Outputs, DW0020A, LARGE T&R; Generic Part Number: SN74HC373; Manufacturer: Texas Instruments; PartNumber: SN74HC373DWR; VCC(Min)(V): 2; VCC(Max)(V): 6; Output Type: CMOS; Logic: True; Static Current: 0.08; Bits(#): 8; F @ Nom Voltage(Max)(Mhz): 28; Rating: Catalog; Technology Family: HC; Schmitt Trigger: No; Output Drive (IOL/IOH)(Max)(mA): 7.8/-7.8; Output Logic: Non-inverted; 3-State Output: Yes; tpd @ Nom Voltage(Max)(ns): 32; DatasheetVersion: SCLS140D; PackageReference: DW0020A; Supplier 1: Digi-Key; Supplier Part Number 1: 296-1200-2-ND; Supplier 2: Digi-Key; Supplier Part Number 2: 296-1200-1-ND; Supplier 3: Digi-Key; Supplier Part Number 3: 296-1200-6-ND; Supplier 4: Farnell; Supplier Part Number 4: 2412322; Supplier 5: Farnell; Supplier Part Number 5: 2114053; Supplier 6: Newark; Supplier Part Number 6: 35K0809; Supplier 7: Newark; Supplier Part Number 7: 28X3814; Supplier 8: Mouser; Supplier Part Number 8: 595-SN74HC373DWR; ICC @ Nom Voltage(Max)(mA): 0.08; Input Type: CMOS; Operating Temperature Range(C): -40 to 85; Voltage(Nom)(V): 6; Code_JEDEC: MS-013; ComponentLink1Description: Manufacturer URL; ComponentLink1URL: http://www.ti.com/; ComponentLink2Description: Datasheet; ComponentLink2URL: http://www.ti.com/lit/ds/symlink/sn74hc373.pdf; ComponentLink3Description: Package Specification; ComponentLink3URL: http://www.ti.com/lit/ml/mpds173a/mpds173a.pdf
footprint DW0020A_N (SOIC, 20-Leads, Body 13x7.6mm, Pitch 1.27mm, IPC Medium Density)
footprint DW0020A_M (SOIC, 20-Leads, Body 13x7.6mm, Pitch 1.27mm, IPC Low Density)
footprint DW0020A_L (SOIC, 20-Leads, Body 13x7.6mm, Pitch 1.27mm, IPC High Density)
pins: 1 ~{OE} (in) "Output Enable", 2 1Q (hiz) "1Q Output", 3 1D (in) "1D Input", 4 2D (in) "2D Input", 5 2Q (hiz) "2Q Output", 6 3Q (hiz) "3Q Output", 7 3D (in) "3D Input", 8 4D (in) "4D Input", 9 4Q (hiz) "4Q Output", 10 GND (power) "Ground Pin", 11 LE (in) "Latch Enable", 12 5Q (hiz) "5Q Output", 13 5D (in) "5D Input", 14 6D (in) "6D Input", 15 6Q (hiz) "6Q Output", 16 7Q (hiz) "7Q Output", 17 7D (in) "7D Input", 18 8D (in) "8D Input", 19 8Q (hiz) "8Q Output", 20 VCC (power) "Power Pin"

## SN74HC373N
designator U?
Octal Transparent D-Type Latches With 3-State Outputs, N0020A, TUBE; Generic Part Number: SN74HC373; Manufacturer: Texas Instruments; PartNumber: SN74HC373N; VCC(Min)(V): 2; VCC(Max)(V): 6; Output Type: CMOS; Logic: True; Static Current: 0.08; Bits(#): 8; F @ Nom Voltage(Max)(Mhz): 28; Rating: Catalog; Technology Family: HC; Schmitt Trigger: No; Output Drive (IOL/IOH)(Max)(mA): 7.8/-7.8; Output Logic: Non-inverted; 3-State Output: Yes; tpd @ Nom Voltage(Max)(ns): 32; DatasheetVersion: SCLS140D; PackageReference: N0020A; Supplier 1: Digi-Key; Supplier Part Number 1: 296-1591-5-ND; Supplier 2: Farnell; Supplier Part Number 2: 9591460; Supplier 3: Newark; Supplier Part Number 3: 59K9085; Supplier 4: Mouser; Supplier Part Number 4: 595-SN74HC373N; ICC @ Nom Voltage(Max)(mA): 0.08; Input Type: CMOS; Operating Temperature Range(C): -40 to 85; Voltage(Nom)(V): 6; Code_JEDEC: MS-001; ComponentLink1Description: Manufacturer URL; ComponentLink1URL: http://www.ti.com/; ComponentLink2Description: Datasheet; ComponentLink2URL: http://www.ti.com/lit/ds/symlink/sn74hc373.pdf; ComponentLink3Description: Package Specification; ComponentLink3URL: http://www.ti.com/lit/ml/mpdi002c/mpdi002c.pdf
footprint N0020A (DIP, 20-Leads, Body 26.9x6.6mm, Pitch 2.54mm)
pins: 1 ~{OE} (in) "Output Enable", 2 1Q (hiz) "1Q Output", 3 1D (in) "1D Input", 4 2D (in) "2D Input", 5 2Q (hiz) "2Q Output", 6 3Q (hiz) "3Q Output", 7 3D (in) "3D Input", 8 4D (in) "4D Input", 9 4Q (hiz) "4Q Output", 10 GND (power) "Ground Pin", 11 LE (in) "Latch Enable", 12 5Q (hiz) "5Q Output", 13 5D (in) "5D Input", 14 6D (in) "6D Input", 15 6Q (hiz) "6Q Output", 16 7Q (hiz) "7Q Output", 17 7D (in) "7D Input", 18 8D (in) "8D Input", 19 8Q (hiz) "8Q Output", 20 VCC (power) "Power Pin"

## SN74HC373NSR
designator U?
Octal Transparent D-Type Latches With 3-State Outputs, NS0020A, LARGE T&R; Generic Part Number: SN74HC373; Manufacturer: Texas Instruments; PartNumber: SN74HC373NSR; VCC(Min)(V): 2; VCC(Max)(V): 6; Output Type: CMOS; Logic: True; Static Current: 0.08; Bits(#): 8; F @ Nom Voltage(Max)(Mhz): 28; Rating: Catalog; Technology Family: HC; Schmitt Trigger: No; Output Drive (IOL/IOH)(Max)(mA): 7.8/-7.8; Output Logic: Non-inverted; 3-State Output: Yes; tpd @ Nom Voltage(Max)(ns): 32; DatasheetVersion: SCLS140D; PackageReference: NS0020A; Supplier 1: Digi-Key; Supplier Part Number 1: 296-8310-2-ND; Supplier 2: Digi-Key; Supplier Part Number 2: 296-8310-1-ND; Supplier 3: Digi-Key; Supplier Part Number 3: 296-8310-6-ND; Supplier 4: Farnell; Supplier Part Number 4: 2436996; Supplier 5: Mouser; Supplier Part Number 5: 595-SN74HC373NSR; ICC @ Nom Voltage(Max)(mA): 0.08; Input Type: CMOS; Operating Temperature Range(C): -40 to 85; Voltage(Nom)(V): 6; ComponentLink1Description: Manufacturer URL; ComponentLink1URL: http://www.ti.com/; ComponentLink2Description: Datasheet; ComponentLink2URL: http://www.ti.com/lit/ds/symlink/sn74hc373.pdf; ComponentLink3Description: Package Specification; ComponentLink3URL: http://www.ti.com/lit/ml/msop002a/msop002a.pdf
footprint NS0020A_N (SOIC,20-Leads,Body 12.9x5.6mm,Pitch 1.27mm,IPC Medium Density)
footprint NS0020A_M (SOIC,20-Leads,Body 12.9x5.6mm,Pitch 1.27mm,IPC Low Density)
footprint NS0020A_L (SOIC,20-Leads,Body 12.9x5.6mm,Pitch 1.27mm,IPC High Density)
pins: 1 ~{OE} (in) "Output Enable", 2 1Q (hiz) "1Q Output", 3 1D (in) "1D Input", 4 2D (in) "2D Input", 5 2Q (hiz) "2Q Output", 6 3Q (hiz) "3Q Output", 7 3D (in) "3D Input", 8 4D (in) "4D Input", 9 4Q (hiz) "4Q Output", 10 GND (power) "Ground Pin", 11 LE (in) "Latch Enable", 12 5Q (hiz) "5Q Output", 13 5D (in) "5D Input", 14 6D (in) "6D Input", 15 6Q (hiz) "6Q Output", 16 7Q (hiz) "7Q Output", 17 7D (in) "7D Input", 18 8D (in) "8D Input", 19 8Q (hiz) "8Q Output", 20 VCC (power) "Power Pin"

## SN74HC373PW
designator U?
Octal Transparent D-Type Latches With 3-State Outputs, PW0020A, TUBE; Generic Part Number: SN74HC373; Manufacturer: Texas Instruments; PartNumber: SN74HC373PW; VCC(Min)(V): 2; VCC(Max)(V): 6; Output Type: CMOS; Logic: True; Static Current: 0.08; Bits(#): 8; F @ Nom Voltage(Max)(Mhz): 28; Rating: Catalog; Technology Family: HC; Schmitt Trigger: No; Output Drive (IOL/IOH)(Max)(mA): 7.8/-7.8; Output Logic: Non-inverted; 3-State Output: Yes; tpd @ Nom Voltage(Max)(ns): 32; DatasheetVersion: SCLS140D; PackageReference: PW0020A; Supplier 1: Digi-Key; Supplier Part Number 1: 296-33934-5-ND; Supplier 2: Newark; Supplier Part Number 2: 02H5420; Supplier 3: Mouser; Supplier Part Number 3: 595-SN74HC373PW; ICC @ Nom Voltage(Max)(mA): 0.08; Input Type: CMOS; Operating Temperature Range(C): -40 to 85; Voltage(Nom)(V): 6; Code_JEDEC: MO-153; ComponentLink1Description: Manufacturer URL; ComponentLink1URL: http://www.ti.com/; ComponentLink2Description: Datasheet; ComponentLink2URL: http://www.ti.com/lit/ds/symlink/sn74hc373.pdf; ComponentLink3Description: Package Specification; ComponentLink3URL: http://www.ti.com/lit/ml/mpds362/mpds362.pdf
footprint PW0020A_N (SOP, 20-Leads, Body 6.6x4.5mm, Pitch 0.65mm, IPC Medium Density)
footprint PW0020A_M (SOP, 20-Leads, Body 6.6x4.5mm, Pitch 0.65mm, IPC Low Density)
footprint PW0020A_L (SOP, 20-Leads, Body 6.6x4.5mm, Pitch 0.65mm, IPC High Density)
pins: 1 ~{OE} (in) "Output Enable", 2 1Q (hiz) "1Q Output", 3 1D (in) "1D Input", 4 2D (in) "2D Input", 5 2Q (hiz) "2Q Output", 6 3Q (hiz) "3Q Output", 7 3D (in) "3D Input", 8 4D (in) "4D Input", 9 4Q (hiz) "4Q Output", 10 GND (power) "Ground Pin", 11 LE (in) "Latch Enable", 12 5Q (hiz) "5Q Output", 13 5D (in) "5D Input", 14 6D (in) "6D Input", 15 6Q (hiz) "6Q Output", 16 7Q (hiz) "7Q Output", 17 7D (in) "7D Input", 18 8D (in) "8D Input", 19 8Q (hiz) "8Q Output", 20 VCC (power) "Power Pin"

## SN74HC373PWR
designator U?
Octal Transparent D-Type Latches With 3-State Outputs, PW0020A, LARGE T&R; Generic Part Number: SN74HC373; Manufacturer: Texas Instruments; PartNumber: SN74HC373PWR; VCC(Min)(V): 2; VCC(Max)(V): 6; Output Type: CMOS; Logic: True; Static Current: 0.08; Bits(#): 8; F @ Nom Voltage(Max)(Mhz): 28; Rating: Catalog; Technology Family: HC; Schmitt Trigger: No; Output Drive (IOL/IOH)(Max)(mA): 7.8/-7.8; Output Logic: Non-inverted; 3-State Output: Yes; tpd @ Nom Voltage(Max)(ns): 32; DatasheetVersion: SCLS140D; PackageReference: PW0020A; Supplier 1: Digi-Key; Supplier Part Number 1: 296-8311-2-ND; Supplier 2: Digi-Key; Supplier Part Number 2: 296-8311-1-ND; Supplier 3: Digi-Key; Supplier Part Number 3: 296-8311-6-ND; Supplier 4: Farnell; Supplier Part Number 4: 1287558; Supplier 5: Farnell; Supplier Part Number 5: 2342520; Supplier 6: Farnell; Supplier Part Number 6: 2342520RL; Supplier 7: Newark; Supplier Part Number 7: 01X3079; Supplier 8: Newark; Supplier Part Number 8: 76C3547; Supplier 9: Mouser; Supplier Part Number 9: 595-SN74HC373PWR; ICC @ Nom Voltage(Max)(mA): 0.08; Input Type: CMOS; Operating Temperature Range(C): -40 to 85; Voltage(Nom)(V): 6; Code_JEDEC: MO-153; ComponentLink1Description: Manufacturer URL; ComponentLink1URL: http://www.ti.com/; ComponentLink2Description: Datasheet; ComponentLink2URL: http://www.ti.com/lit/ds/symlink/sn74hc373.pdf; ComponentLink3Description: Package Specification; ComponentLink3URL: http://www.ti.com/lit/ml/mpds362/mpds362.pdf
footprint PW0020A_N (SOP, 20-Leads, Body 6.6x4.5mm, Pitch 0.65mm, IPC Medium Density)
footprint PW0020A_M (SOP, 20-Leads, Body 6.6x4.5mm, Pitch 0.65mm, IPC Low Density)
footprint PW0020A_L (SOP, 20-Leads, Body 6.6x4.5mm, Pitch 0.65mm, IPC High Density)
pins: 1 ~{OE} (in) "Output Enable", 2 1Q (hiz) "1Q Output", 3 1D (in) "1D Input", 4 2D (in) "2D Input", 5 2Q (hiz) "2Q Output", 6 3Q (hiz) "3Q Output", 7 3D (in) "3D Input", 8 4D (in) "4D Input", 9 4Q (hiz) "4Q Output", 10 GND (power) "Ground Pin", 11 LE (in) "Latch Enable", 12 5Q (hiz) "5Q Output", 13 5D (in) "5D Input", 14 6D (in) "6D Input", 15 6Q (hiz) "6Q Output", 16 7Q (hiz) "7Q Output", 17 7D (in) "7D Input", 18 8D (in) "8D Input", 19 8Q (hiz) "8Q Output", 20 VCC (power) "Power Pin"

## SN74HC373PWT
designator U?
Octal Transparent D-Type Latches With 3-State Outputs, PW0020A, SMALL T&R; Generic Part Number: SN74HC373; Manufacturer: Texas Instruments; PartNumber: SN74HC373PWT; VCC(Min)(V): 2; VCC(Max)(V): 6; Output Type: CMOS; Logic: True; Static Current: 0.08; Bits(#): 8; F @ Nom Voltage(Max)(Mhz): 28; Rating: Catalog; Technology Family: HC; Schmitt Trigger: No; Output Drive (IOL/IOH)(Max)(mA): 7.8/-7.8; Output Logic: Non-inverted; 3-State Output: Yes; tpd @ Nom Voltage(Max)(ns): 32; DatasheetVersion: SCLS140D; PackageReference: PW0020A; Supplier 1: Digi-Key; Supplier Part Number 1: 296-31807-2-ND; Supplier 2: Digi-Key; Supplier Part Number 2: 296-31807-1-ND; Supplier 3: Digi-Key; Supplier Part Number 3: 296-31807-6-ND; Supplier 4: Farnell; Supplier Part Number 4: 1754469; Supplier 5: Mouser; Supplier Part Number 5: 595-SN74HC373PWT; ICC @ Nom Voltage(Max)(mA): 0.08; Input Type: CMOS; Operating Temperature Range(C): -40 to 85; Voltage(Nom)(V): 6; Code_JEDEC: MO-153; ComponentLink1Description: Manufacturer URL; ComponentLink1URL: http://www.ti.com/; ComponentLink2Description: Datasheet; ComponentLink2URL: http://www.ti.com/lit/ds/symlink/sn74hc373.pdf; ComponentLink3Description: Package Specification; ComponentLink3URL: http://www.ti.com/lit/ml/mpds362/mpds362.pdf
footprint PW0020A_N (SOP, 20-Leads, Body 6.6x4.5mm, Pitch 0.65mm, IPC Medium Density)
footprint PW0020A_M (SOP, 20-Leads, Body 6.6x4.5mm, Pitch 0.65mm, IPC Low Density)
footprint PW0020A_L (SOP, 20-Leads, Body 6.6x4.5mm, Pitch 0.65mm, IPC High Density)
pins: 1 ~{OE} (in) "Output Enable", 2 1Q (hiz) "1Q Output", 3 1D (in) "1D Input", 4 2D (in) "2D Input", 5 2Q (hiz) "2Q Output", 6 3Q (hiz) "3Q Output", 7 3D (in) "3D Input", 8 4D (in) "4D Input", 9 4Q (hiz) "4Q Output", 10 GND (power) "Ground Pin", 11 LE (in) "Latch Enable", 12 5Q (hiz) "5Q Output", 13 5D (in) "5D Input", 14 6D (in) "6D Input", 15 6Q (hiz) "6Q Output", 16 7Q (hiz) "7Q Output", 17 7D (in) "7D Input", 18 8D (in) "8D Input", 19 8Q (hiz) "8Q Output", 20 VCC (power) "Power Pin"

## SN74HC374DBR
designator U?
Octal Edge-Triggered D-Type Flip-Flops With 3-State Outputs, DB0020A, LARGE T&R; Generic Part Number: SN74HC374; Manufacturer: Texas Instruments; PartNumber: SN74HC374DBR; VCC(Min)(V): 2; VCC(Max)(V): 6; Output Type: CMOS; ICC @ Nom Voltage(Max)(mA): 0.08; Bits(#): 8; F @ Nom Voltage(Max)(Mhz): 28; Rating: Catalog; Technology Family: HC; Voltage(Nom)(V): 3.3,5; Schmitt Trigger: No; Output Drive (IOL/IOH)(Max)(mA): 7.8/-7.8; Output Logic: Non-inverted; 3-State Output: Yes; tpd @ Nom Voltage(Max)(ns): 38; DatasheetVersion: SCLS141E; PackageReference: DB0020A; Supplier 1: Digi-Key; Supplier Part Number 1: 296-8312-2-ND; Supplier 2: Digi-Key; Supplier Part Number 2: 296-8312-1-ND; Supplier 3: Digi-Key; Supplier Part Number 3: 296-8312-6-ND; Supplier 4: Mouser; Supplier Part Number 4: 595-SN74HC374DBR; Input Type: CMOS; Operating Temperature Range(C): -40 to 85; Code_JEDEC: MO-150; ComponentLink1Description: Manufacturer URL; ComponentLink1URL: http://www.ti.com/; ComponentLink2Description: Datasheet; ComponentLink2URL: http://www.ti.com/lit/ds/symlink/sn74hc374.pdf; ComponentLink3Description: Package Specification; ComponentLink3URL: http://www.ti.com/lit/ml/mpds508/mpds508.pdf
footprint DB0020A_N (SOP, 20-Leads, Body 5.6x7.5mm, Pitch 0.65mm, IPC Medium Density)
footprint DB0020A_M (SOP, 20-Leads, Body 5.6x7.5mm, Pitch 0.65mm, IPC Low Density)
footprint DB0020A_L (SOP, 20-Leads, Body 5.6x7.5mm, Pitch 0.65mm, IPC High Density)
part A pins: 1 OE (in), 2 1Q (hiz), 3 1D (in), 4 2D (in), 5 2Q (hiz), 6 3Q (hiz), 7 3D (in), 8 4D (in), 9 4Q (hiz), 11 CLK (in), 12 5Q (hiz), 13 5D (in), 14 6D (in), 15 6Q (hiz), 16 7Q (hiz), 17 7D (in), 18 8D (in), 19 8Q (hiz)
part B pins: 10 GND (power), 20 VCC (power)

## SN74HC374DW
designator U?
Octal Edge-Triggered D-Type Flip-Flops With 3-State Outputs, DW0020A, TUBE; Generic Part Number: SN74HC374; Manufacturer: Texas Instruments; PartNumber: SN74HC374DW; VCC(Min)(V): 2; VCC(Max)(V): 6; Output Type: CMOS; ICC @ Nom Voltage(Max)(mA): 0.08; Bits(#): 8; F @ Nom Voltage(Max)(Mhz): 28; Rating: Catalog; Technology Family: HC; Voltage(Nom)(V): 3.3,5; Schmitt Trigger: No; Output Drive (IOL/IOH)(Max)(mA): 7.8/-7.8; Output Logic: Non-inverted; 3-State Output: Yes; tpd @ Nom Voltage(Max)(ns): 38; DatasheetVersion: SCLS141E; PackageReference: DW0020A; Supplier 1: Digi-Key; Supplier Part Number 1: 296-1201-5-ND; Supplier 2: Farnell; Supplier Part Number 2: 9591478; Supplier 3: Newark; Supplier Part Number 3: 08F6511; Supplier 4: Mouser; Supplier Part Number 4: 595-SN74HC374DW; Input Type: CMOS; Operating Temperature Range(C): -40 to 85; Code_JEDEC: MS-013; ComponentLink1Description: Manufacturer URL; ComponentLink1URL: http://www.ti.com/; ComponentLink2Description: Datasheet; ComponentLink2URL: http://www.ti.com/lit/ds/symlink/sn74hc374.pdf; ComponentLink3Description: Package Specification; ComponentLink3URL: http://www.ti.com/lit/ml/mpds173a/mpds173a.pdf
footprint DW0020A_N (SOIC, 20-Leads, Body 13x7.6mm, Pitch 1.27mm, IPC Medium Density)
footprint DW0020A_M (SOIC, 20-Leads, Body 13x7.6mm, Pitch 1.27mm, IPC Low Density)
footprint DW0020A_L (SOIC, 20-Leads, Body 13x7.6mm, Pitch 1.27mm, IPC High Density)
part A pins: 1 OE (in), 2 1Q (hiz), 3 1D (in), 4 2D (in), 5 2Q (hiz), 6 3Q (hiz), 7 3D (in), 8 4D (in), 9 4Q (hiz), 11 CLK (in), 12 5Q (hiz), 13 5D (in), 14 6D (in), 15 6Q (hiz), 16 7Q (hiz), 17 7D (in), 18 8D (in), 19 8Q (hiz)
part B pins: 10 GND (power), 20 VCC (power)

## SN74HC374DWR
designator U?
Octal Edge-Triggered D-Type Flip-Flops With 3-State Outputs, DW0020A, LARGE T&R; Generic Part Number: SN74HC374; Manufacturer: Texas Instruments; PartNumber: SN74HC374DWR; VCC(Min)(V): 2; VCC(Max)(V): 6; Output Type: CMOS; ICC @ Nom Voltage(Max)(mA): 0.08; Bits(#): 8; F @ Nom Voltage(Max)(Mhz): 28; Rating: Catalog; Technology Family: HC; Voltage(Nom)(V): 3.3,5; Schmitt Trigger: No; Output Drive (IOL/IOH)(Max)(mA): 7.8/-7.8; Output Logic: Non-inverted; 3-State Output: Yes; tpd @ Nom Voltage(Max)(ns): 38; DatasheetVersion: SCLS141E; PackageReference: DW0020A; Supplier 1: Digi-Key; Supplier Part Number 1: 296-1201-2-ND; Supplier 2: Digi-Key; Supplier Part Number 2: 296-1201-1-ND; Supplier 3: Digi-Key; Supplier Part Number 3: 296-1201-6-ND; Supplier 4: Farnell; Supplier Part Number 4: 9853707; Supplier 5: Newark; Supplier Part Number 5: 35K0810; Supplier 6: Mouser; Supplier Part Number 6: 595-SN74HC374DWR; Input Type: CMOS; Operating Temperature Range(C): -40 to 85; Code_JEDEC: MS-013; ComponentLink1Description: Manufacturer URL; ComponentLink1URL: http://www.ti.com/; ComponentLink2Description: Datasheet; ComponentLink2URL: http://www.ti.com/lit/ds/symlink/sn74hc374.pdf; ComponentLink3Description: Package Specification; ComponentLink3URL: http://www.ti.com/lit/ml/mpds173a/mpds173a.pdf
footprint DW0020A_N (SOIC, 20-Leads, Body 13x7.6mm, Pitch 1.27mm, IPC Medium Density)
footprint DW0020A_M (SOIC, 20-Leads, Body 13x7.6mm, Pitch 1.27mm, IPC Low Density)
footprint DW0020A_L (SOIC, 20-Leads, Body 13x7.6mm, Pitch 1.27mm, IPC High Density)
part A pins: 1 OE (in), 2 1Q (hiz), 3 1D (in), 4 2D (in), 5 2Q (hiz), 6 3Q (hiz), 7 3D (in), 8 4D (in), 9 4Q (hiz), 11 CLK (in), 12 5Q (hiz), 13 5D (in), 14 6D (in), 15 6Q (hiz), 16 7Q (hiz), 17 7D (in), 18 8D (in), 19 8Q (hiz)
part B pins: 10 GND (power), 20 VCC (power)

## SN74HC374N
designator U?
Octal Edge-Triggered D-Type Flip-Flops With 3-State Outputs, N0020A, TUBE; Generic Part Number: SN74HC374; Manufacturer: Texas Instruments; PartNumber: SN74HC374N; VCC(Min)(V): 2; VCC(Max)(V): 6; Output Type: CMOS; ICC @ Nom Voltage(Max)(mA): 0.08; Bits(#): 8; F @ Nom Voltage(Max)(Mhz): 28; Rating: Catalog; Technology Family: HC; Voltage(Nom)(V): 3.3,5; Schmitt Trigger: No; Output Drive (IOL/IOH)(Max)(mA): 7.8/-7.8; Output Logic: Non-inverted; 3-State Output: Yes; tpd @ Nom Voltage(Max)(ns): 38; DatasheetVersion: SCLS141E; PackageReference: N0020A; Supplier 1: Digi-Key; Supplier Part Number 1: 296-1592-5-ND; Supplier 2: Farnell; Supplier Part Number 2: 9591486; Supplier 3: Newark; Supplier Part Number 3: 60K6837; Supplier 4: Mouser; Supplier Part Number 4: 595-SN74HC374N; Input Type: CMOS; Operating Temperature Range(C): -40 to 85; Code_JEDEC: MS-001; ComponentLink1Description: Manufacturer URL; ComponentLink1URL: http://www.ti.com/; ComponentLink2Description: Datasheet; ComponentLink2URL: http://www.ti.com/lit/ds/symlink/sn74hc374.pdf; ComponentLink3Description: Package Specification; ComponentLink3URL: http://www.ti.com/lit/ml/mpdi002c/mpdi002c.pdf
footprint N0020A (DIP, 20-Leads, Body 26.9x6.6mm, Pitch 2.54mm)
part A pins: 1 OE (in), 2 1Q (hiz), 3 1D (in), 4 2D (in), 5 2Q (hiz), 6 3Q (hiz), 7 3D (in), 8 4D (in), 9 4Q (hiz), 11 CLK (in), 12 5Q (hiz), 13 5D (in), 14 6D (in), 15 6Q (hiz), 16 7Q (hiz), 17 7D (in), 18 8D (in), 19 8Q (hiz)
part B pins: 10 GND (power), 20 VCC (power)